# Altium footprint library AIMLAB_TESTSTATION_ADC_V1.PcbLib: 45 footprints (part 1 of 3)
Each footprint in its own frame and in the unit in brackets; x right, y up, seen from the top. Pads: shape width x height; smd on the part's side, far side on the other; paste and mask are expansions set on the pad; w line width, h text height; cw(c..) or ccw(c..) is an arc to the next point about the centre after c.
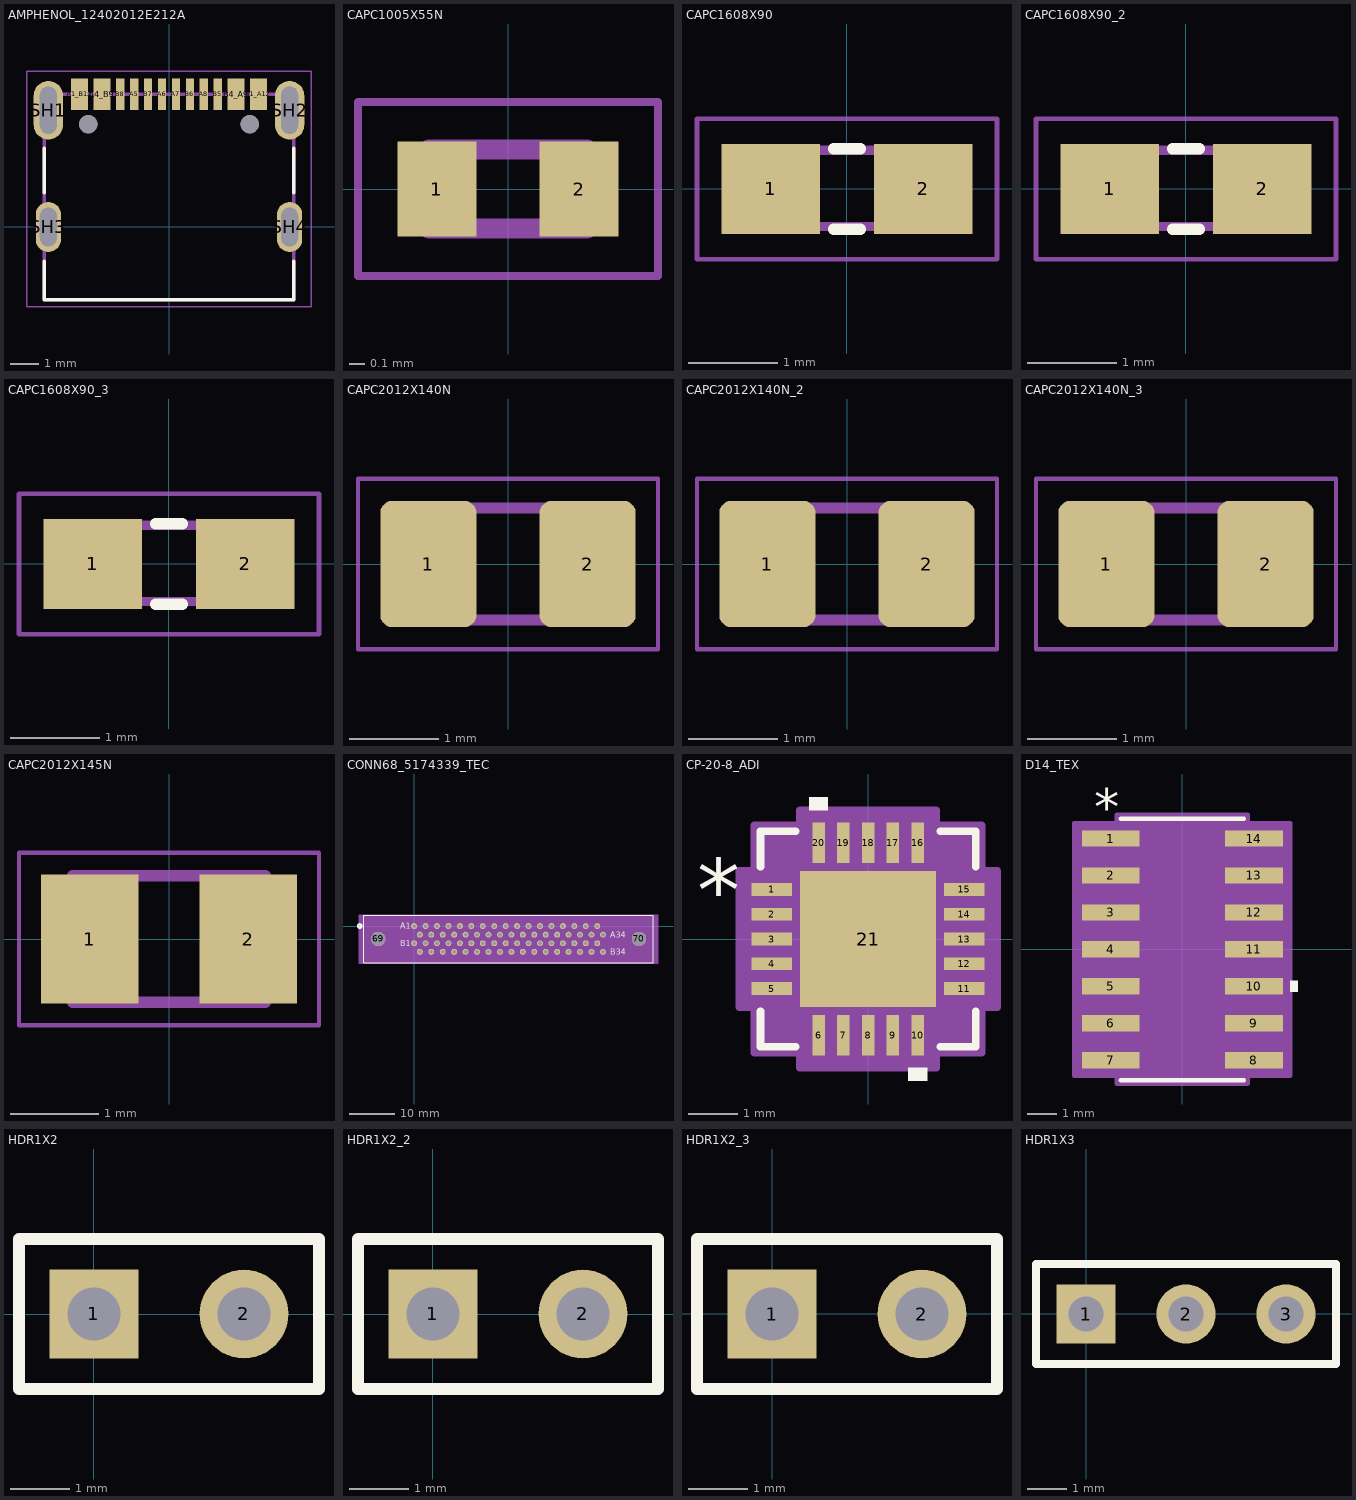
[diagram p0: the footprints below, top view; thin cyan lines are the x and y axes]

## AMPHENOL_12402012E212A [mm]
height 3.26
pads (18):
  rect 0.6x1.14 smd: A1_B12(-3.2,4.75) A4_B9(-2.4,4.75) B1_A12(3.2,4.75) B4_A9(2.4,4.75)
  rect 0.3x1.14 smd: A5(-1.25,4.75) A6(-0.25,4.75) A7(0.25,4.75) A8(1.25,4.75) B5(1.75,4.75) B6(0.75,4.75) B7(-0.75,4.75) B8(-1.75,4.75)
  oval 1.05x2.1 hole 0.6 slot 1.7 at 90 deg: SH1(-4.32,4.18) SH2(4.32,4.18)
  oval 0.9x1.8 hole 0.6 slot 1.4 at 90 deg: SH3(-4.32,0) SH4(4.32,0)
  round 0.65 hole 0.65 unplated: ""(-2.89,3.68) ""(2.89,3.68)
Top Overlay:
  lines w0.127: -4.47,-1.22 -4.47,-2.6 4.47,-2.6 4.47,-1.22 ; -4.47,1.22 -4.47,2.81 ; 4.47,1.22 4.47,2.81
Mechanical 13:
  lines w0.127: -4.47,-2.6 4.47,-2.6 4.47,4.75 -4.47,4.75 -4.47,-2.6
Mechanical 15:
  lines w0.05: -5.095,-2.85 -5.095,5.57 5.095,5.57 5.095,-2.85 -5.095,-2.85
3D body "step_temp.STEP": height 1.58, standoff -2.59, extent -4.495,-2.784 4.445,4.816

## CAPC1005X55N [mm]
height 0.55
pads (2):
  rect 0.5x0.6 smd paste+0 mask+0.102: 1(-0.45,0) 2(0.45,0)
Mechanical 13:
  lines w0.127: -0.5,-0.25 0.5,-0.25 0.5,0.25 -0.5,0.25 -0.5,-0.25
Mechanical 15:
  lines w0.05: -0.95,-0.55 0.95,-0.55 0.95,0.55 -0.95,0.55 -0.95,-0.55
3D body "step_temp.STEP": height 0.55, standoff 0, extent -0.5,-0.25 0.5,0.25

## CAPC1608X90 [mm]
pads (2):
  rect 1.1x1 smd: 1(-0.85,0) 2(0.85,0)
Top Overlay:
  lines w0.127: -0.15,-0.45 0.15,-0.45 ; -0.15,0.45 0.15,0.45
Mechanical 13:
  region: 0.83,-0.471 0.331,-0.471 0.331,0.48 0.83,0.48
  region: -0.338,-0.47 -0.839,-0.47 -0.839,0.48 -0.338,0.48
  lines w0.102: -0.356,-0.419 0.356,-0.419 ; -0.356,0.432 0.356,0.432
Mechanical 15:
  lines w0.051: -1.673,-0.783 -1.673,0.783 1.673,0.783 1.673,-0.783 -1.673,-0.783
3D body: height 0.9, standoff 0, extent -0.8,-0.4 0.8,0.4

## CAPC1608X90_2 [mm]
pads (2):
  rect 1.1x1 smd: 1(-0.85,0) 2(0.85,0)
Top Overlay:
  lines w0.127: -0.15,-0.45 0.15,-0.45 ; -0.15,0.45 0.15,0.45
Mechanical 13:
  region: 0.83,-0.471 0.331,-0.471 0.331,0.48 0.83,0.48
  region: -0.338,-0.47 -0.839,-0.47 -0.839,0.48 -0.338,0.48
  lines w0.102: -0.356,-0.419 0.356,-0.419 ; -0.356,0.432 0.356,0.432
Mechanical 15:
  lines w0.051: -1.673,-0.783 -1.673,0.783 1.673,0.783 1.673,-0.783 -1.673,-0.783
3D body: height 0.9, standoff 0, extent -0.8,-0.4 0.8,0.4

## CAPC1608X90_3 [mm]
pads (2):
  rect 1.1x1 smd: 1(-0.85,0) 2(0.85,0)
Top Overlay:
  lines w0.127: -0.15,-0.45 0.15,-0.45 ; -0.15,0.45 0.15,0.45
Mechanical 13:
  region: 0.83,-0.471 0.331,-0.471 0.331,0.48 0.83,0.48
  region: -0.338,-0.47 -0.839,-0.47 -0.839,0.48 -0.338,0.48
  lines w0.102: -0.356,-0.419 0.356,-0.419 ; -0.356,0.432 0.356,0.432
Mechanical 15:
  lines w0.051: -1.673,-0.783 -1.673,0.783 1.673,0.783 1.673,-0.783 -1.673,-0.783
3D body: height 0.9, standoff 0, extent -0.8,-0.4 0.8,0.4

## CAPC2012X140N [mm]
height 1
pads (2):
  rrect25% 1.08x1.42 smd: 1(-0.895,0) 2(0.895,0)
Mechanical 13:
  lines w0.127: -1,-0.63 1,-0.63 1,0.63 -1,0.63 -1,-0.63
Mechanical 15:
  lines w0.05: -1.685,-0.96 1.685,-0.96 1.685,0.96 -1.685,0.96 -1.685,-0.96
3D body: height 1.4, standoff 0, extent -1,-0.625 1,0.625

## CAPC2012X140N_2 [mm]
pads (2):
  rrect25% 1.08x1.42 smd: 1(-0.895,0) 2(0.895,0)
Mechanical 13:
  lines w0.127: -1,-0.63 -1,0.63 1,0.63 1,-0.63 -1,-0.63
Mechanical 15:
  lines w0.05: -1.685,-0.96 -1.685,0.96 1.685,0.96 1.685,-0.96 -1.685,-0.96
3D body: height 1.4, standoff 0, extent -1,-0.625 1,0.625

## CAPC2012X140N_3 [mm]
pads (2):
  rrect25% 1.08x1.42 smd: 1(-0.895,0) 2(0.895,0)
Mechanical 13:
  lines w0.127: -1,-0.63 -1,0.63 1,0.63 1,-0.63 -1,-0.63
Mechanical 15:
  lines w0.05: -1.685,-0.96 -1.685,0.96 1.685,0.96 1.685,-0.96 -1.685,-0.96
3D body: height 1.4, standoff 0, extent -1,-0.625 1,0.625

## CAPC2012X145N [mm]
pads (2):
  rect 1.11x1.47 smd: 1(-0.9,0) 2(0.9,0)
Mechanical 13:
  lines w0.127: -1.1,-0.72 -1.1,0.72 1.1,0.72 1.1,-0.72 -1.1,-0.72
Mechanical 15:
  lines w0.05: -1.708,-0.983 -1.708,0.983 1.708,0.983 1.708,-0.983 -1.708,-0.983
3D body: height 1.45, standoff 0, extent -1,-0.625 1,0.625

## CONN68_5174339_TEC [mil]
pads (70):
  round 52 / inner round 60 / far side round 52 hole 32 paste-99999 mask+0: 1(0,0) 2(50,-75) 3(100,0) 4(150,-75) 5(200,0) 6(250,-75) 7(300,0) 8(350,-75) 9(400,0) 10(450,-75) 11(500,0) 12(550,-75) 13(600,0) 14(650,-75) 15(700,0) 16(750,-75) 17(800,0) 18(850,-75) 19(900,0) 20(950,-75) 21(1000,0) 22(1050,-75) 23(1100,0) 24(1150,-75) 25(1200,0) 26(1250,-75) 27(1300,0) 28(1350,-75) 29(1400,0) 30(1450,-75) 31(1500,0) 32(1550,-75) 33(1600,0) 34(1650,-75) 35(0,-150) 36(50,-225) 37(100,-150) 38(150,-225) 39(200,-150) 40(250,-225) 41(300,-150) 42(350,-225) 43(400,-150) 44(450,-225) 45(500,-150) 46(550,-225) 47(600,-150) 48(650,-225) 49(700,-150) 50(750,-225) 51(800,-150) 52(850,-225) 53(900,-150) 54(950,-225) 55(1000,-150) 56(1050,-225) 57(1100,-150) 58(1150,-225) 59(1200,-150) 60(1250,-225) 61(1300,-150) 62(1350,-225) 63(1400,-150) 64(1450,-225) 65(1500,-150) 66(1550,-225) 67(1600,-150) 68(1650,-225)
  round 126 / inner round 60 / far side round 126 hole 126 unplated paste-99999 mask+0: 69(-314.76,-112.5) 70(1964.76,-112.5)
Top Overlay:
  circle w20: c-475,0 r15
  lines w6: -437.87,-320.74 2087.87,-320.74 2087.87,95.26 -437.87,95.26 -437.87,-320.74
  text "A1" at -122,-25 h50
  text "B1" at -122,-175 h50
  text "A34" at 1712,-100 h50
  text "B34" at 1712,-250 h50
Bottom Overlay:
  circle w20: c-475,0 r15
  text "A1" at -72,-25 h50
  text "B1" at -72,-175 h50
  text "A34" at 1787,-100 h50
  text "B34" at 1787,-250 h50
Mechanical 13:
  circle w20: c0,75 r15
  lines w1: -432.87,-315.74 2082.87,-315.74 2082.87,90.26 -432.87,90.26 -432.87,-315.74
  text "A1" at -122,-25 h50
  text "B1" at -122,-175 h50
  text "A34" at 1712,-100 h50
  text "B34" at 1712,-250 h50
  text "RefDes2" at 737.5,-175 h50
Mechanical 15:
  region: 2130.87,100.26 -480.87,100.26 -480.87,-325.74 2130.87,-325.74
  region: 2082.87,90.26 -432.87,90.26 -432.87,-315.74 2082.87,-315.74
  lines w6: -480.87,-325.74 -480.87,100.26 2130.87,100.26 2130.87,-325.74 -480.87,-325.74

## CP-20-8_ADI [mil]
pads (21):
  rect 32x10 smd paste+0 mask+0: 1(-76.5,39.37) 2(-76.5,19.68) 3(-76.5,0) 4(-76.5,-19.68) 5(-76.5,-39.37) 11(76.5,-39.37) 12(76.5,-19.68) 13(76.5,0) 14(76.5,19.68) 15(76.5,39.37)
  rect 10x32 smd paste+0 mask+0: 6(-39.37,-76.5) 7(-19.68,-76.5) 8(0,-76.5) 9(19.68,-76.5) 10(39.37,-76.5) 16(39.37,76.5) 17(19.68,76.5) 18(0,76.5) 19(-19.68,76.5) 20(-39.37,76.5)
  rect 108x108 smd paste+0 mask+0: 21(0,0)
Top Overlay:
  region: -31.87,102.5 -46.87,102.5 -46.87,112.5 -31.87,112.5
  region: 46.87,-102.5 31.87,-102.5 31.87,-112.5 46.87,-112.5
  lines w6: -85.5,-57.47 -85.5,-85.5 -57.47,-85.5 ; -85.5,57.47 -85.5,85.5 -57.47,85.5 ; 57.47,-85.5 85.5,-85.5 85.5,-57.47 ; 57.47,85.5 85.5,85.5 85.5,57.47
  text "*" at -136,14.37 h50
Mechanical 13:
  lines w1: -80.5,30.5 -30.5,80.5 ; -80.5,-80.5 -80.5,80.5 80.5,80.5 80.5,-80.5 -80.5,-80.5 ; -80.5,-45.37 -80.5,-33.37 -80.5,-45.37 ; -80.5,-25.68 -80.5,-13.69 -80.5,-25.68 ; -80.5,-6 -80.5,6 -80.5,-6 ; -80.5,13.69 -80.5,25.68 -80.5,13.69 ; -80.5,33.37 -80.5,45.37 -80.5,33.37 ; -45.37,-80.5 -33.37,-80.5 -45.37,-80.5 ; -45.37,80.5 -33.37,80.5 -45.37,80.5 ; -25.68,-80.5 -13.69,-80.5 -25.68,-80.5 ; -25.68,80.5 -13.69,80.5 -25.68,80.5 ; -6,-80.5 6,-80.5 -6,-80.5 ; -6,80.5 6,80.5 -6,80.5 ; 13.69,-80.5 25.68,-80.5 13.69,-80.5 ; 13.69,80.5 25.68,80.5 13.69,80.5 ; 33.37,-80.5 45.37,-80.5 33.37,-80.5 ; 33.37,80.5 45.37,80.5 33.37,80.5 ; 80.5,-45.37 80.5,-33.37 80.5,-45.37 ; 80.5,-25.68 80.5,-13.69 80.5,-25.68 ; 80.5,-6 80.5,6 80.5,-6 ; 80.5,13.69 80.5,25.68 80.5,13.69 ; 80.5,33.37 80.5,45.37 80.5,33.37
  text "*" at -42,14.37 h50
Mechanical 15:
  region: -54.37,-90.5 -90.5,-90.5 -90.5,-54.37 -102.5,-54.37 -102.5,54.37 -90.5,54.37 -90.5,90.5 -54.37,90.5 -54.37,102.5 54.37,102.5 54.37,90.5 90.5,90.5 90.5,54.37 102.5,54.37 102.5,-54.37 90.5,-54.37 90.5,-90.5 54.37,-90.5 54.37,-102.5 -54.37,-102.5
  lines w6: -102.5,-54.37 -102.5,54.37 -90.5,54.37 -90.5,90.5 -54.37,90.5 -54.37,102.5 54.37,102.5 54.37,90.5 90.5,90.5 90.5,54.37 102.5,54.37 102.5,-54.37 90.5,-54.37 90.5,-90.5 54.37,-90.5 54.37,-102.5 -54.37,-102.5 -54.37,-90.5 -90.5,-90.5 -90.5,-54.37 -102.5,-54.37
3D body "CP-20-8_ADI.step": height 30.12, standoff 0, extent -80.51,-80.51 80.51,80.51

## D14_TEX [mil]
pads (14):
  rect 78x22 smd paste+0 mask+0: 1(-97,150) 2(-97,100) 3(-97,50) 4(-97,0) 5(-97,-50) 6(-97,-100) 7(-97,-150) 8(97,-150) 9(97,-100) 10(97,-50) 11(97,0) 12(97,50) 13(97,100) 14(97,150)
Top Overlay:
  region: 146,-42.5 156,-42.5 156,-57.5 146,-57.5
  lines w6: -83.5,-177 83.5,-177 ; -83.5,177 83.5,177
  text "*" at -119.5,167 h50
Mechanical 13:
  lines w0: -12,172 ccw(c0,172) 12,172
  lines w1: -122,-160 -122,-140 -78.5,-140 -78.5,-160 -122,-160 ; -122,-110 -122,-90 -78.5,-90 -78.5,-110 -122,-110 ; -122,-60 -122,-40 -78.5,-40 -78.5,-60 -122,-60 ; -122,-10 -122,10 -78.5,10 -78.5,-10 -122,-10 ; -122,40 -122,60 -78.5,60 -78.5,40 -122,40 ; -122,90 -122,110 -78.5,110 -78.5,90 -122,90 ; -122,140 -122,160 -78.5,160 -78.5,140 -122,140 ; -78.5,-172 78.5,-172 78.5,172 -78.5,172 -78.5,-172 ; 78.5,-160 78.5,-140 122,-140 122,-160 78.5,-160 ; 78.5,-110 78.5,-90 122,-90 122,-110 78.5,-110 ; 78.5,-60 78.5,-40 122,-40 122,-60 78.5,-60 ; 78.5,-10 78.5,10 122,10 122,-10 78.5,-10 ; 78.5,40 78.5,60 122,60 122,40 78.5,40 ; 78.5,90 78.5,110 122,110 122,90 78.5,90 ; 78.5,140 78.5,160 122,160 122,140 78.5,140
  text "*" at -76,119 h50
Mechanical 15:
  region: -88.5,-171 -146,-171 -146,171 -88.5,171 -88.5,182 88.5,182 88.5,171 146,171 146,-171 88.5,-171 88.5,-182 -88.5,-182
  lines w6: -146,-171 -146,171 -88.5,171 -88.5,182 88.5,182 88.5,171 146,171 146,-171 88.5,-171 88.5,-182 -88.5,-182 -88.5,-171 -146,-171
3D body "D14_TEX.step": height 69.09, standoff 0, extent -122.01,-172.01 122.01,172.01

## HDR1X2 [mm]
height 1
pads (2):
  rect 1.5x1.5 hole 0.9: 1(0,0)
  round 1.5 hole 0.9: 2(2.54,0)
Top Overlay:
  lines w0.2: -1.27,-1.27 3.81,-1.27 3.81,1.27 -1.27,1.27 -1.27,-1.27

## HDR1X2_2 [mm]
pads (2):
  rect 1.5x1.5 hole 0.9: 1(0,0)
  round 1.5 hole 0.9: 2(2.54,0)
Top Overlay:
  lines w0.2: -1.27,-1.27 -1.27,1.27 3.81,1.27 3.81,-1.27 -1.27,-1.27

## HDR1X2_3 [mm]
pads (2):
  rect 1.5x1.5 hole 0.9: 1(0,0)
  round 1.5 hole 0.9: 2(2.54,0)
Top Overlay:
  lines w0.2: -1.27,-1.27 -1.27,1.27 3.81,1.27 3.81,-1.27 -1.27,-1.27

## HDR1X3 [mm]
height 1
pads (3):
  rect 1.5x1.5 hole 0.9: 1(0,0)
  round 1.5 hole 0.9: 2(2.54,0) 3(5.08,0)
Top Overlay:
  lines w0.2: -1.27,-1.27 -1.27,1.27 6.35,1.27 6.35,-1.27 -1.27,-1.27